# EAGLE library part SQJ850 (library lfpak.mosfet)
MOSFET N SQJ850EP Specifocation Transistor Polarity: N Channel Continuous Drain Current Id: 24A Drain Source Voltage Vds: 60V On Resistance Rds(on): 0.019ohm Rds(on) Test Voltage Vgs: 10V Threshold Voltage Vgs Typ: 2V Power Dissipation Pd: 45W Operating Temperature Range: -55°C to +175°C Transistor Case Style: PowerPAK SO No. of Pins: 8 Voltage Vgs Max: 20V
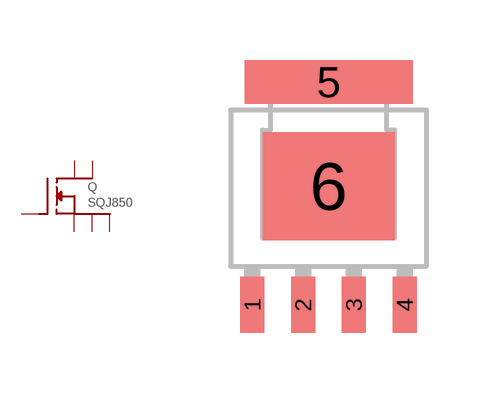
[diagram p6: symbol with the pads of LFPAC; footprint LFPAC]

Designator prefix Q

## SQJ850 (MPN: SQJ850EP-T1-GE3; OC_FARNELL: 1969932; PACKAGE: PwPAK SO-08; SUPPLIER: VISHAY)  [LFPAC]
1  S1
2  S2
3  S3
4  G
5  D1
6  D2

## Footprint LFPAC (pad centres in mm)
smd 0.6 x 1.4: 1 -1.905,-2.945; 2 -0.635,-2.945; 3 0.635,-2.945; 4 1.905,-2.945
smd 4.2 x 1.1: 5 0,2.625
smd 3.3 x 2.7: 6 0,0.025